# Altium schematic symbol library Schlib1.SchLib: 2 symbols
Pins are listed as number, name and electrical type; pins without a type are passive.

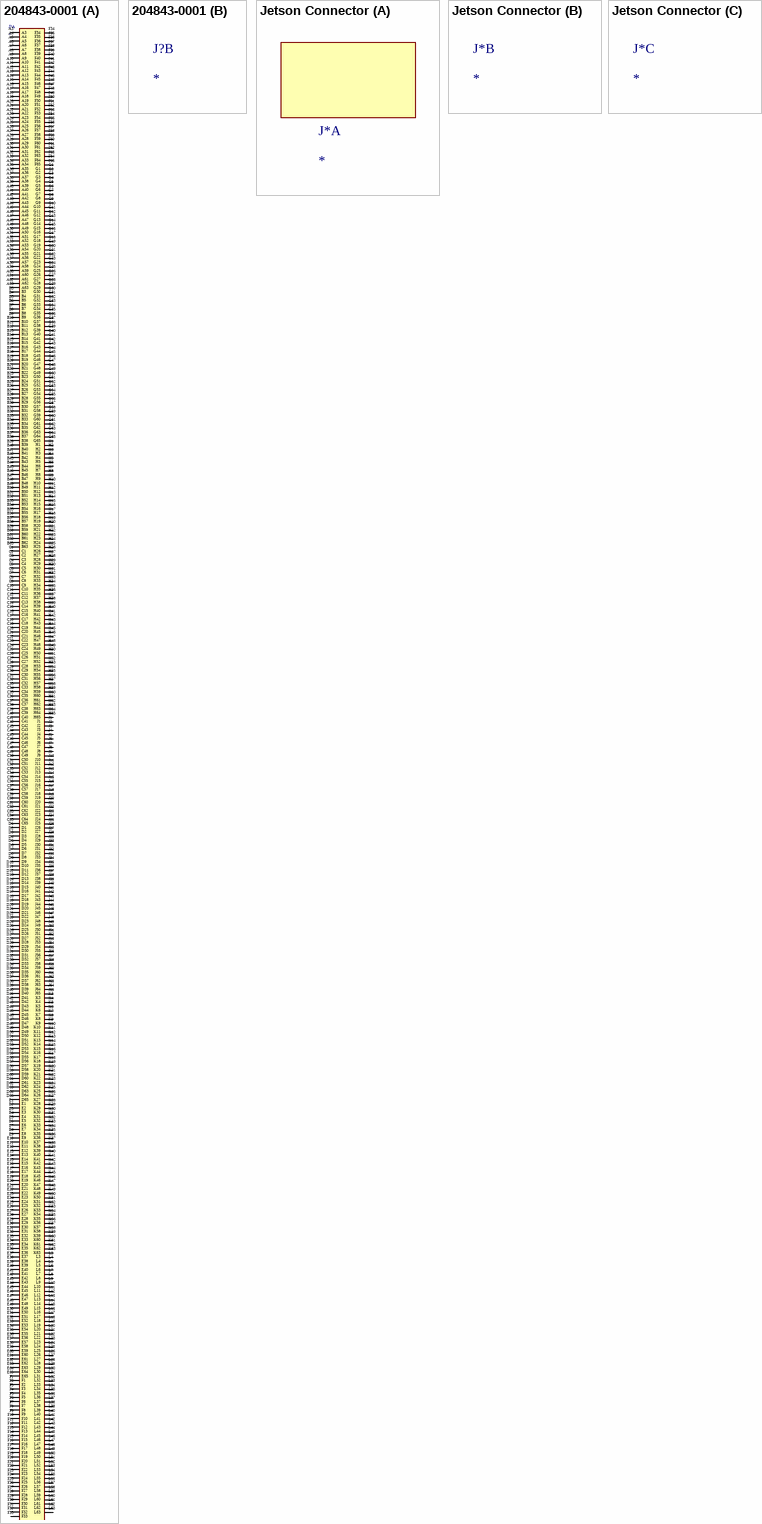
[diagram p0: symbols 204843-0001 to Jetson Connector]

## 204843-0001
designator J?
Connector; Manufacturer_Name: Molex; Manufacturer_Part_Number: 204843-0001; Datasheet Link: https://www.molex.com/pdm_docs/sd/2048430001_sd.pdf; Height: 4.65mm; Mouser Part Number: 538-204843-0001; Mouser Price/Stock: https://www.mouser.co.uk/ProductDetail/Molex/204843-0001?qs=byeeYqUIh0OFKpuvdTN0jA%3D%3D
footprint 2048430001
part A pins: A3, A4, A5, A6, A7, A8, A9, A10, A11, A12, A13, A14, A15, A16, A17, A18, A19, A20, A21, A22, A23, A24, A25, A26, A27, A28, A29, A30, A31, A32, A33, A34, A35, A36, A37, A38, A39, A40, A41, A42, A43, A44, A45, A46, A47, A48, A49, A50, A51, A52, A53, A54, A55, A56, A57, A58, A59, A60, A61, A62, A63, B3, B4, B5, B6, B7, B8, B9, B10, B11, B12, B13, B14, B15, B16, B17, B18, B19, B20, B21, B22, B23, B24, B25, B26, B27, B28, B29, B30, B31, B32, B33, B34, B35, B36, B37, B38, B39, B40, B41, B42, B43, B44, B45, B46, B47, B48, B49, B50, B51, B52, B53, B54, B55, B56, B57, B58, B59, B60, B61, B62, B63, C1, C2, C3, C4, C5, C6, C7, C8, C9, C10, C11, C12, C13, C14, C15, C16, C17, C18, C19, C20, C21, C22, C23, C24, C25, C26, C27, C28, C29, C30, C31, C32, C33, C34, C35, C36, C37, C38, C39, C40, C41, C42, C43, C44, C45, C46, C47, C48, C49, C50, C51, C52, C53, C54, C55, C56, C57, C58, C59, C60, C61, C62, C63, C64, C65, D1, D2, D3, D4, D5, D6, D7, D8, D9, D10, D11, D12, D13, D14, D15, D16, D17, D18, D19, D20, D21, D22, D23, D24, D25, D26, D27, D28, D29, D30, D31, D32, D33, D34, D35, D36, D37, D38, D39, D40, D41, D42, D43, D44, D45, D46, D47, D48, D49, D50, D51, D52, D53, D54, D55, D56, D57, D58, D59, D60, D61, D62, D63, D64, D65, E1, E2, E3, E4, E5, E6, E7, E8, E9, E10, E11, E12, E13, E14, E15, E16, E17, E18, E19, E20, E21, E22, E23, E24, E25, E26, E27, E28, E29, E30, E31, E32, E33, E34, E35, E36, E37, E38, E39, E40, E41, E42, E43, E44, E45, E46, E47, E48, E49, E50, E51, E52, E53, E54, E55, E56, E57, E58, E59, E60, E61, E62, E63, E64, E65, F1, F2, F3, F4, F5, F6, F7, F8, F9, F10, F11, F12, F13, F14, F15, F16, F17, F18, F19, F20, F21, F22, F23, F24, F25, F26, F27, F28, F29, F30, F31, F32, F33, F34, F35, F36, F37, F38, F39, F40, F41, F42, F43, F44, F45, F46, F47, F48, F49, F50, F51, F52, F53, F54, F55, F56, F57, F58, F59, F60, F61, F62, F63, F64, F65, G1, G2, G3, G4, G5, G6, G7, G8, G9, G10, G11, G12, G13, G14, G15, G16, G17, G18, G19, G20, G21, G22, G23, G24, G25, G26, G27, G28, G29, G30, G31, G32, G33, G34, G35, G36, G37, G38, G39, G40, G41, G42, G43, G44, G45, G46, G47, G48, G49, G50, G51, G52, G53, G54, G55, G56, G57, G58, G59, G60, G61, G62, G63, G64, G65, H1, H2, H3, H4, H5, H6, H7, H8, H9, H10, H11, H12, H13, H14, H15, H16, H17, H18, H19, H20, H21, H22, H23, H24, H25, H26, H27, H28, H29, H30, H31, H32, H33, H34, H35, H36, H37, H38, H39, H40, H41, H42, H43, H44, H45, H46, H47, H48, H49, H50, H51, H52, H53, H54, H55, H56, H57, H58, H59, H60, H61, H62, H63, H64, H65, J1, J2, J3, J4, J5, J6, J7, J8, J9, J10, J11, J12, J13, J14, J15, J16, J17, J18, J19, J20, J21, J22, J23, J24, J25, J26, J27, J28, J29, J30, J31, J32, J33, J34, J35, J36, J37, J38, J39, J40, J41, J42, J43, J44, J45, J46, J47, J48, J49, J50, J51, J52, J53, J54, J55, J56, J57, J58, J59, J60, J61, J62, J63, J64, J65, K3, K4, K5, K6, K7, K8, K9, K10, K11, K12, K13, K14, K15, K16, K17, K18, K19, K20, K21, K22, K23, K24, K25, K26, K27, K28, K29, K30, K31, K32, K33, K34, K35, K36, K37, K38, K39, K40, K41, K42, K43, K44, K45, K46, K47, K48, K49, K50, K51, K52, K53, K54, K55, K56, K57, K58, K59, K60, K61, K62, K63, L3, L4, L5, L6, L7, L8, L9, L10, L11, L12, L13, L14, L15, L16, L17, L18, L19, L20, L21, L22, L23, L24, L25, L26, L27, L28, L29, L30, L31, L32, L33, L34, L35, L36, L37, L38, L39, L40, L41, L42, L43, L44, L45, L46, L47, L48, L49, L50, L51, L52, L53, L54, L55, L56, L57, L58, L59, L60, L61, L62, L63

## Jetson Connector
designator J*
204843-0001
footprint 2048430001